# EAGLE library part AX88772B (library balto)
AX88772BLF / AX88772BLI Low-power
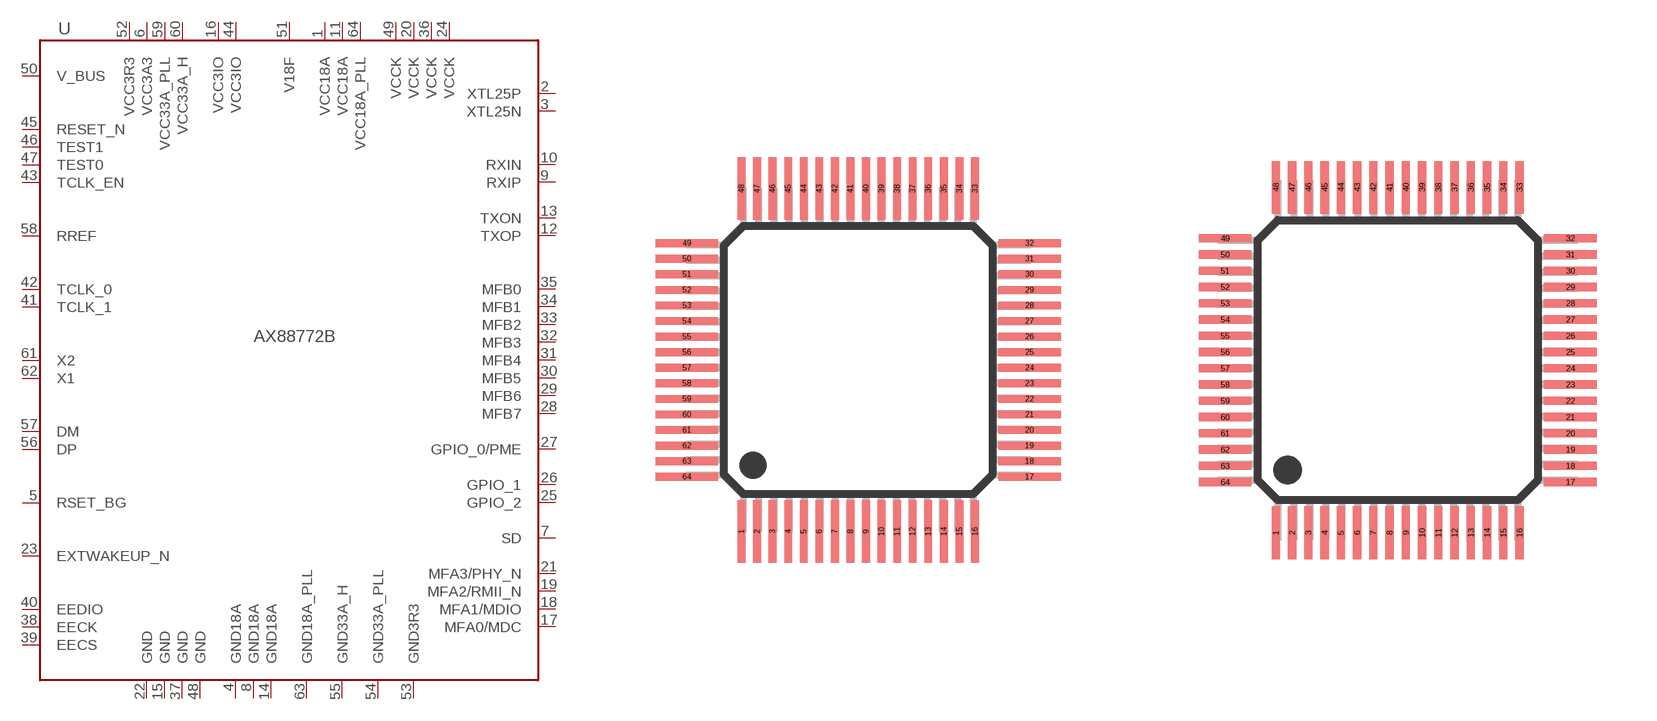
[diagram p37: symbol with the pads of LQFP64-0.4MM; footprints LQFP64-0.4MM, LQFP64-0.4MM-SHORTPAD]

Designator prefix U

## AX88772BLP  [LQFP64-0.4MM]
1  VCC18A
2  XTL25P
3  XTL25N
4  GND18A
5  RSET_BG
6  VCC3A3
7  SD
8  GND18A
9  RXIP
10  RXIN
11  VCC18A
12  TXOP
13  TXON
14  GND18A
15  GND
16  VCC3IO
17  MFA0/MDC
18  MFA1/MDIO
19  MFA2/RMII_N
20  VCCK
21  MFA3/PHY_N
22  GND
23  EXTWAKEUP_N
24  VCCK
25  GPIO_2
26  GPIO_1
27  GPIO_0/PME
28  MFB7
29  MFB6
30  MFB5
31  MFB4
32  MFB3
33  MFB2
34  MFB1
35  MFB0
36  VCCK
37  GND
38  EECK
39  EECS
40  EEDIO
41  TCLK_1
42  TCLK_0
43  TCLK_EN
44  VCC3IO
45  RESET_N
46  TEST1
47  TEST0
48  GND
49  VCCK
50  V_BUS
51  V18F
52  VCC3R3
53  GND3R3
54  GND33A_PLL
55  GND33A_H
56  DP
57  DM
58  RREF
59  VCC33A_PLL
60  VCC33A_H
61  X2
62  X1
63  GND18A_PLL
64  VCC18A_PLL

## AX88772BSP  [LQFP64-0.4MM-SHORTPAD]
Pads as for LQFP64-0.4MM

## Footprint LQFP64-0.4MM (pad centres in mm)
LQFP64 - 0.4mm pin-to-pin Hacked to get 8mil spacing
smd 0.203 x 1.626: 1 -3.048,-4.47; 2 -2.642,-4.47; 3 -2.235,-4.47; 4 -1.829,-4.47; 5 -1.422,-4.47; 6 -1.016,-4.47; 7 -0.61,-4.47; 8 -0.203,-4.47; 9 0.203,-4.47; 10 0.61,-4.47; 11 1.016,-4.47; 12 1.422,-4.47; 13 1.829,-4.47; 14 2.235,-4.47; 15 2.642,-4.47; 16 3.048,-4.47; 33 3.048,4.47; 34 2.642,4.47; 35 2.235,4.47; 36 1.829,4.47; 37 1.422,4.47; 38 1.016,4.47; 39 0.61,4.47; 40 0.203,4.47; 41 -0.203,4.47; 42 -0.61,4.47; 43 -1.016,4.47; 44 -1.422,4.47; 45 -1.829,4.47; 46 -2.235,4.47; 47 -2.642,4.47; 48 -3.048,4.47
smd 1.626 x 0.203: 17 4.47,-3.048; 18 4.47,-2.642; 19 4.47,-2.235; 20 4.47,-1.829; 21 4.47,-1.422; 22 4.47,-1.016; 23 4.47,-0.61; 24 4.47,-0.203; 25 4.47,0.203; 26 4.47,0.61; 27 4.47,1.016; 28 4.47,1.422; 29 4.47,1.829; 30 4.47,2.235; 31 4.47,2.642; 32 4.47,3.048; 49 -4.47,3.048; 50 -4.47,2.642; 51 -4.47,2.235; 52 -4.47,1.829; 53 -4.47,1.422; 54 -4.47,1.016; 55 -4.47,0.61; 56 -4.47,0.203; 57 -4.47,-0.203; 58 -4.47,-0.61; 59 -4.47,-1.016; 60 -4.47,-1.422; 61 -4.47,-1.829; 62 -4.47,-2.235; 63 -4.47,-2.642; 64 -4.47,-3.048

## Footprint LQFP64-0.4MM-SHORTPAD (pad centres in mm)
smd 0.203 x 1.321: 1 -3.048,-4.318; 2 -2.642,-4.318; 3 -2.235,-4.318; 4 -1.829,-4.318; 5 -1.422,-4.318; 6 -1.016,-4.318; 7 -0.61,-4.318; 8 -0.203,-4.318; 9 0.203,-4.318; 10 0.61,-4.318; 11 1.016,-4.318; 12 1.422,-4.318; 13 1.829,-4.318; 14 2.235,-4.318; 15 2.642,-4.318; 16 3.048,-4.318; 33 3.048,4.318; 34 2.642,4.318; 35 2.235,4.318; 36 1.829,4.318; 37 1.422,4.318; 38 1.016,4.318; 39 0.61,4.318; 40 0.203,4.318; 41 -0.203,4.318; 42 -0.61,4.318; 43 -1.016,4.318; 44 -1.422,4.318; 45 -1.829,4.318; 46 -2.235,4.318; 47 -2.642,4.318; 48 -3.048,4.318
smd 1.321 x 0.203: 17 4.318,-3.048; 18 4.318,-2.642; 19 4.318,-2.235; 20 4.318,-1.829; 21 4.318,-1.422; 22 4.318,-1.016; 23 4.318,-0.61; 24 4.318,-0.203; 25 4.318,0.203; 26 4.318,0.61; 27 4.318,1.016; 28 4.318,1.422; 29 4.318,1.829; 30 4.318,2.235; 31 4.318,2.642; 32 4.318,3.048; 49 -4.318,3.048; 50 -4.318,2.642; 51 -4.318,2.235; 52 -4.318,1.829; 53 -4.318,1.422; 54 -4.318,1.016; 55 -4.318,0.61; 56 -4.318,0.203; 57 -4.318,-0.203; 58 -4.318,-0.61; 59 -4.318,-1.016; 60 -4.318,-1.422; 61 -4.318,-1.829; 62 -4.318,-2.235; 63 -4.318,-2.642; 64 -4.318,-3.048